# Altium footprint library smd_inductancies.PcbLib: 25 footprints (part 1 of 2)
Each footprint in its own frame and in the unit in brackets; x right, y up, seen from the top. Pads: shape width x height; smd on the part's side, far side on the other; paste and mask are expansions set on the pad; w line width, h text height; cw(c..) or ccw(c..) is an arc to the next point about the centre after c.
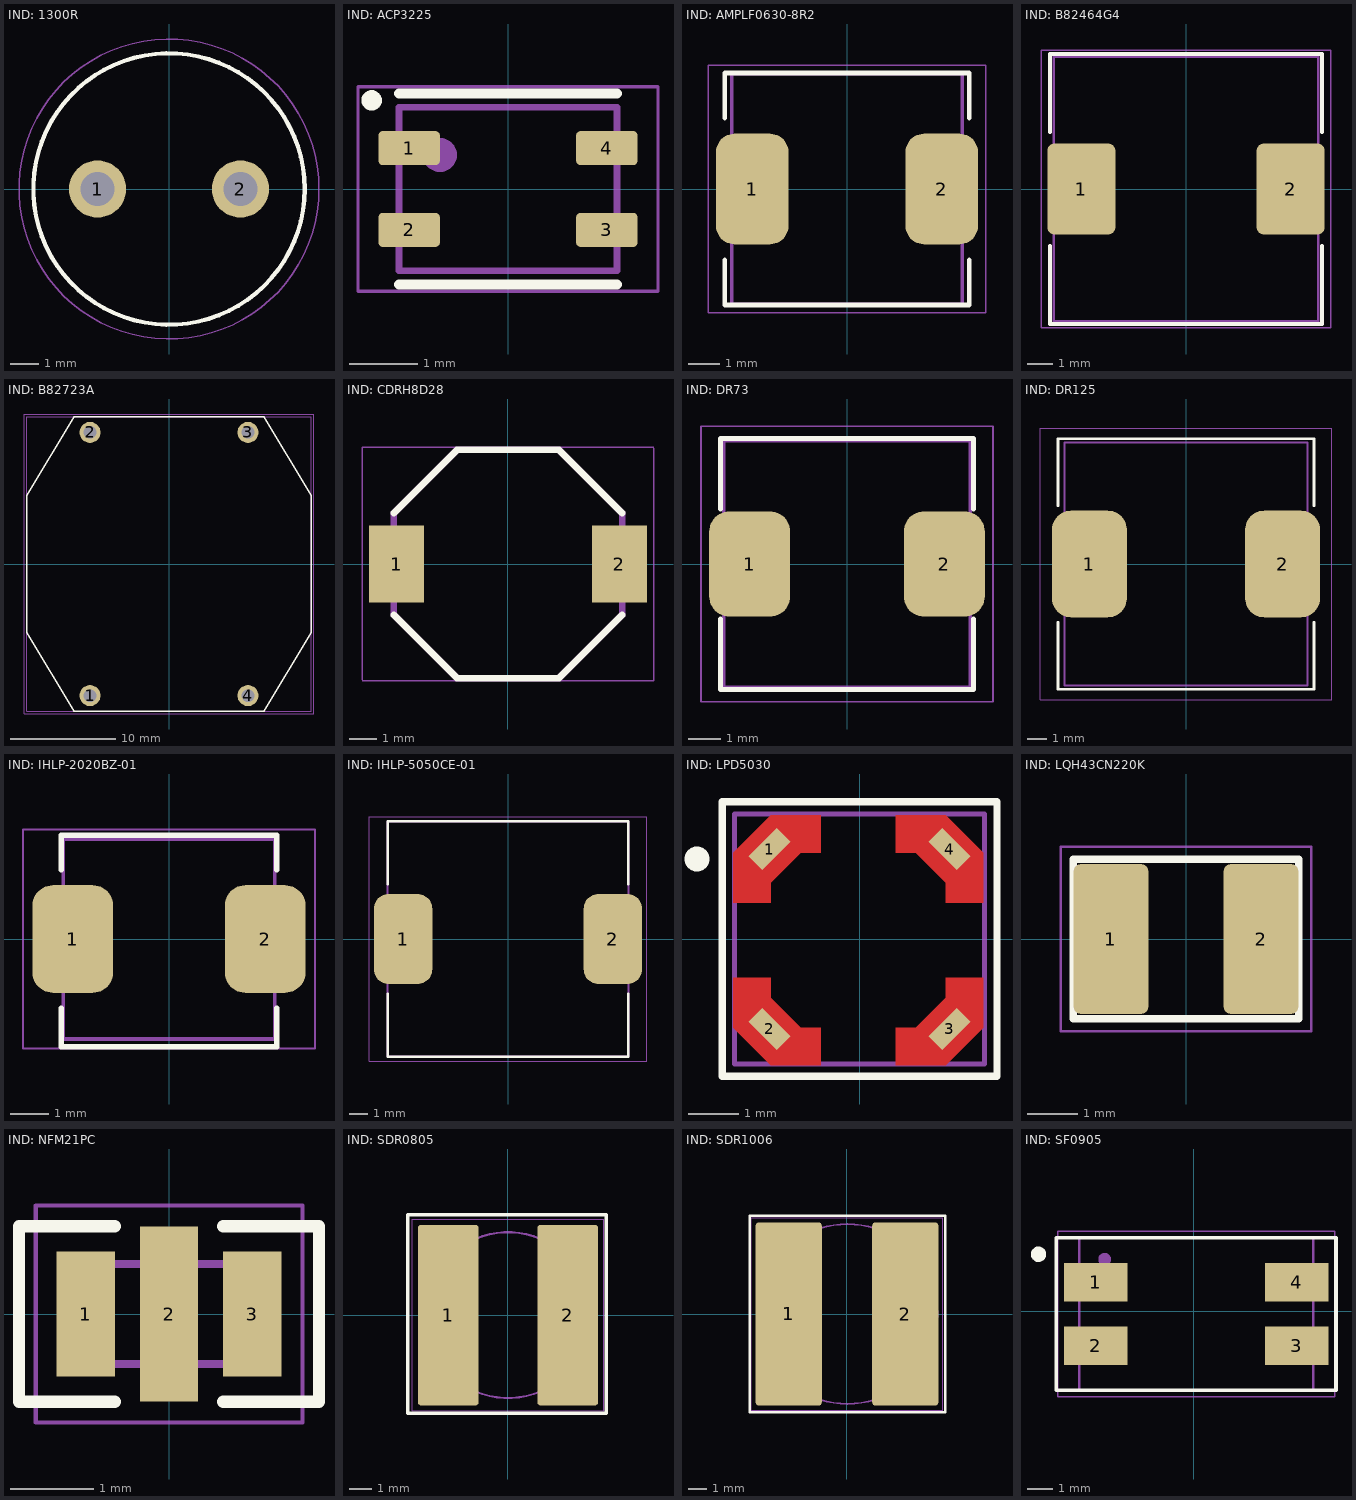
[diagram p0: the footprints below, top view; thin cyan lines are the x and y axes]

## IND: 1300R [mm]
height 13.5
pads (2):
  round 2 hole 1.2: 1(-2.5,0) 2(2.5,0)
Top Overlay:
  circle w0.15: c0,0 r4.75
Top Assembly:
  circle w0.1: c0,0 r4.75
  text ".Designator" at -4.998,-0.333 h1
Top Courtyard (Mech15):
  lines w0.05: 5.25,0 ccw(c0,0) 5.25,0
3D body "1300R.STEP": height 12.18, standoff -34.83, extent -5.594,-5.663 5.744,5.675

## IND: ACP3225 [mm]
height 2
pads (4):
  rrect25% 0.9x0.5 smd: 1(-1.45,0.6) 2(-1.45,-0.6) 3(1.45,-0.6) 4(1.45,0.6)
Top Overlay:
  circle w0.2: c-2,1.3 r0.05
  lines w0.15: -1.6,-1.4 1.6,-1.4 ; -1.6,1.4 1.6,1.4
Top Assembly:
  circle w0.3: c-1,0.5 r0.1
  lines w0.1: -1.6,-1.2 1.6,-1.2 1.6,1.2 -1.6,1.2 -1.6,-1.2
  text ".Designator" at -4.998,-0.333 h1
Top Courtyard (Mech15):
  lines w0.05: -2.2,-1.5 -2.2,1.5 2.2,1.5 2.2,-1.5 -2.2,-1.5
3D body "User Library-ACP3225-1.STEP": height 1.91, standoff 0, extent -1.61,-1.25 1.61,1.25

## IND: AMPLF0630-8R2 [mm] "Inductor 8.2uH, 3.6А"
pads (2):
  rrect50% 2.3x3.5 smd: 1(-3,0) 2(3,0)
Top Overlay:
  lines w0.15: -3.875,-2.25 -3.875,-3.675 3.875,-3.675 3.875,-2.25 ; -3.875,2.25 -3.875,3.675 3.875,3.675 3.875,2.25
Top Assembly:
  lines w0.1: -3.65,-3.65 -3.65,3.65 3.65,3.65 3.65,-3.65 -3.65,-3.65
  text ".Designator" at -4.998,-0.333 h1
Top Courtyard (Mech15):
  lines w0.05: -4.4,-3.925 -4.4,3.925 4.4,3.925 4.4,-3.925 -4.4,-3.925
3D body: height 2.8, standoff 0, extent -3.65,-3.65 3.65,3.65

## IND: B82464G4 [mm]
height 16.8
pads (2):
  rrect20% 2.7x3.6 smd: 1(-4.15,0) 2(4.15,0)
Top Overlay:
  lines w0.15: -5.4,-2.25 -5.4,-5.35 5.4,-5.35 5.4,-2.25 ; -5.4,2.25 -5.4,5.35 5.4,5.35 5.4,2.25
Top Assembly:
  lines w0.1: -5.25,-5.25 5.25,-5.25 5.25,5.25 -5.25,5.25 -5.25,-5.25
  text ".Designator" at -4.998,-0.333 h1
Top Courtyard (Mech15):
  lines w0.05: -5.75,-5.5 -5.75,5.5 5.75,5.5 5.75,-5.5 -5.75,-5.5
3D body: height 4.8, standoff 0, extent -5.25,-5.25 5.25,5.25

## IND: B82723A [mm]
height 16.8
pads (4):
  round 2 hole 1.2: 1(-7.5,-12.5) 2(-7.5,12.5) 3(7.5,12.5) 4(7.5,-12.5)
Top Overlay:
  lines w0.15: -13.5,-6.5 -13.5,6.5 -9,14 9,14 13.5,6.5 13.5,-6.5 9,-14 -9,-14 -13.5,-6.5
Top Assembly:
  lines w0.1: -13.5,-14 13.5,-14 13.5,14 -13.5,14 -13.5,-14
  text ".Designator" at -4.998,-0.333 h1
Top Courtyard (Mech15):
  lines w0.05: -13.75,-14.25 13.75,-14.25 13.75,14.25 -13.75,14.25 -13.75,-14.25
3D body "B82723A.step": height 16.81, standoff -4, extent -13.5,-14 13.5,14

## IND: CDRH8D28 [mm]
height 3
pads (2):
  rect 2x2.8 smd: 1(-4.05,0) 2(4.05,0)
Top Overlay:
  lines w0.25: -4.15,-1.85 -1.85,-4.15 1.85,-4.15 4.15,-1.85 ; -4.15,1.85 -1.85,4.15 1.85,4.15 4.15,1.85
Top Assembly:
  lines w0.25: -4.15,-1.85 -4.15,1.85 -1.85,4.15 1.85,4.15 4.15,1.85 4.15,-1.85 1.85,-4.15 -1.85,-4.15 -4.15,-1.85
  text ".Designator" at -4.998,-0.333 h1
Top Courtyard (Mech15):
  lines w0.05: -5.3,-4.25 5.3,-4.25 5.3,4.2 ; -5.3,-4.2 -5.3,4.25 5.3,4.25
3D body "CDRH8D28.step": height 2.8, standoff 0, extent -4.35,-4 4.35,4

## IND: DR73 [mm]
pads (2):
  rrect50% 2.5x3.25 smd: 1(-3,0) 2(3,0)
Top Overlay:
  lines w0.15: -3.9,-1.7 -3.9,-3.875 3.9,-3.875 3.9,-1.7 ; -3.9,1.7 -3.9,3.875 3.9,3.875 3.9,1.7
Top Assembly:
  lines w0.1: -3.8,-3.8 3.8,-3.8 3.8,3.8 -3.8,3.8 -3.8,-3.8
  text ".Designator" at -4.998,-0.333 h1
Top Courtyard (Mech15):
  lines w0.05: -4.5,-4.25 -4.5,4.25 4.5,4.25 4.5,-4.25 -4.5,-4.25
3D body "User Library-Ind DR73-74.STEP": height 3.55, standoff 0, extent -3.8,-3.8 3.8,3.8

## IND: DR125 [mm]
pads (2):
  rrect50% 3.85x5.5 smd: 1(-4.975,0) 2(4.975,0)
Top Overlay:
  lines w0.15: -6.6,-3 -6.6,-6.45 6.6,-6.45 6.6,-3 ; -6.6,3 -6.6,6.45 6.6,6.45 6.6,3
Top Assembly:
  lines w0.1: -6.25,-6.25 6.25,-6.25 6.25,6.25 -6.25,6.25 -6.25,-6.25
  text ".Designator" at -4.998,-0.333 h1
Top Courtyard (Mech15):
  lines w0.05: -7.5,-7 7.5,-7 7.5,7 -7.5,7 -7.5,-7
3D body: height 6, standoff 0, extent -6.25,-6.25 6.25,6.25

## IND: IHLP-2020BZ-01 [mm]
pads (2):
  rrect50% 2.1x2.8 smd: 1(-2.5,0) 2(2.5,0)
Top Overlay:
  lines w0.15: -2.8,-1.8 -2.8,-2.8 2.8,-2.8 2.8,-1.8 ; -2.8,1.8 -2.8,2.7 2.8,2.7 2.8,1.8
Top Assembly:
  lines w0.1: -2.75,-2.6 -2.75,2.6 2.75,2.6 2.75,-2.6 -2.75,-2.6
  text ".Designator" at -4.998,-0.333 h1
Top Courtyard (Mech15):
  lines w0.05: -3.8,-2.85 3.8,-2.85 3.8,2.85 -3.8,2.85 -3.8,-2.85
3D body "User Library-IHLP-2020BZ-01.step": height 2, standoff 0, extent -2.745,-2.59 2.745,2.59

## IND: IHLP-5050CE-01 [mm]
pads (2):
  rrect50% 3.2x4.95 smd: 1(-5.75,0) 2(5.75,0)
Top Overlay:
  lines w0.15: -6.6,-3 -6.6,-6.45 6.6,-6.45 6.6,-3 ; -6.6,3 -6.6,6.45 6.6,6.45 6.6,3
Top Assembly:
  lines w0.1: -6.6,-6.45 6.6,-6.45 6.6,6.45 -6.6,6.45 -6.6,-6.45
  text ".Designator" at -4.998,-0.333 h1
Top Courtyard (Mech15):
  lines w0.05: -7.6,-6.7 -7.6,6.7 7.6,6.7 7.6,-6.7 -7.6,-6.7
3D body: height 3.5, standoff 0, extent -6.6,-6.45 6.6,6.45

## IND: LPD5030 [mm]
pads (4):
  rect 0.8x0.4 smd rot 45 mask+0: 1(-1.8,1.8) 3(1.8,-1.8)
  rect 0.8x0.4 smd rot 135 mask+0: 2(-1.8,-1.8) 4(1.8,1.8)
Top Layer:
  region: 0.725,2.475 0.725,1.725 1.123,1.725 1.725,1.123 1.725,0.725 2.475,0.725 2.475,1.725 1.725,2.475
  region: 2.475,-0.775 1.725,-0.775 1.725,-1.173 1.123,-1.775 0.725,-1.775 0.725,-2.525 1.725,-2.525 2.475,-1.775
  region: -0.775,-2.525 -0.775,-1.775 -1.173,-1.775 -1.775,-1.173 -1.775,-0.775 -2.525,-0.775 -2.525,-1.775 -1.775,-2.525
  region: -2.525,0.725 -1.775,0.725 -1.775,1.123 -1.173,1.725 -0.775,1.725 -0.775,2.475 -1.775,2.475 -2.525,1.725
Top Overlay:
  circle w0.5: c-3.25,1.6 r0.001
  lines w0.15: -2.75,-2.75 2.75,-2.75 2.75,2.75 -2.75,2.75 -2.75,-2.75
Top Assembly:
  circle w0.3: c-1.8,1.8 r0.1
  lines w0.1: -2.5,-2.5 2.5,-2.5 2.5,2.5 -2.5,2.5 -2.5,-2.5
  text ".Designator" at -4.998,-0.333 h1
Top Courtyard (Mech15):
  lines w0.05: -2.75,-2.75 2.75,-2.75 2.75,2.75 -2.75,2.75 -2.75,-2.75
3D body: height 2.9, standoff 0, extent -2.5,-2.5 2.5,2.5

## IND: LQH43CN220K [mm]
height 16.8
pads (2):
  rrect20% 1.5x3 smd: 1(-1.5,0) 2(1.5,0)
Top Overlay:
  lines w0.15: -2.25,-1.6 2.25,-1.6 2.25,1.6 -2.25,1.6 -2.25,-1.6
Top Assembly:
  lines w0.1: -2.25,-1.6 -2.25,1.6 2.25,1.6 2.25,-1.6 -2.25,-1.6
  text ".Designator" at -4.998,-0.333 h1
Top Courtyard (Mech15):
  lines w0.05: -2.5,-1.85 -2.5,1.85 2.5,1.85 2.5,-1.85 -2.5,-1.85
3D body: height 2.6, standoff 0, extent -2.25,-1.6 2.25,1.6

## IND: NFM21PC [mm]
pads (3):
  rect 0.7x1.5 smd: 1(-1,0) 3(1,0)
  rect 0.7x2.1 smd: 2(0,0)
Top Overlay:
  lines w0.15: -0.65,-1.05 -1.8,-1.05 -1.8,1.05 -0.65,1.05 ; 0.65,-1.05 1.8,-1.05 1.8,1.05 0.65,1.05
Top Assembly:
  lines w0.1: -1,-0.6 1,-0.6 1,0.6 -1,0.6 -1,-0.6
  text ".Designator" at -4.998,-0.333 h1
Top Courtyard (Mech15):
  lines w0.05: -1.6,-1.3 1.6,-1.3 1.6,1.3 -1.6,1.3 -1.6,-1.3
3D body "User Library-NFM21PC.step": height 0.87, standoff 0, extent -1.01,-0.635 1.01,0.635

## IND: SDR0805 [mm] "SMD Power Inductors"
height 5.3
pads (2):
  rrect10% 2.7x8 smd: 1(-2.65,0) 2(2.65,0)
Top Overlay:
  lines w0.15: -4.45,-4.35 4.35,-4.35 4.35,4.45 -4.45,4.45 -4.45,-4.35
Top Assembly:
  circle w0.1: c0,0 r3.677
  text ".Designator" at -4.998,-0.333 h1
Top Courtyard (Mech15):
  lines w0.05: -4.25,-4.25 4.25,-4.25 4.25,4.25 -4.25,4.25 -4.25,-4.25
3D body "SDR0805.step": height 5.05, standoff 0, extent -3.677,-3.75 3.677,3.75

## IND: SDR1006 [mm] "SMD Power Inductors"
height 5.8
pads (2):
  rrect10% 3.6x10 smd: 1(-3.175,0) 2(3.175,0)
Top Overlay:
  lines w0.15: -5.3,-5.35 -5.3,5.35 5.35,5.35 5.35,-5.35 -5.3,-5.35
Top Assembly:
  circle w0.1: c0.025,0 r4.9
  text ".Designator" at -4.998,-0.333 h1
Top Courtyard (Mech15):
  lines w0.05: -5.225,-5.25 5.225,-5.25 5.225,5.25 -5.225,5.25 -5.225,-5.25
3D body "SDR1006.step": height 5.83, standoff -0.13, extent -4.888,-4.9 4.888,4.9

## IND: SF0905 [mm]
pads (4):
  rect 2.5x1.5 smd: 1(-3.85,1.15) 2(-3.85,-1.35) 3(4.05,-1.35) 4(4.05,1.15)
Top Overlay:
  circle w0.4: c-6.1,2.25 r0.1
  lines w0.15: -5.4,-3.1 -5.4,2.9 5.6,2.9 5.6,-3.1 -5.4,-3.1
Top Assembly:
  circle w0.3: c-3.5,2.05 r0.1
  lines w0.1: -4.5,-3.1 4.7,-3.1 4.7,2.9 -4.5,2.9 -4.5,-3.1
  text ".Designator" at -4.998,-0.333 h1
Top Courtyard (Mech15):
  lines w0.05: -5.35,-3.35 -5.35,3.15 5.55,3.15 5.55,-3.35 -5.35,-3.35
3D body "User Library-Bourns - SRF0905.step": height 5, standoff 0, extent -4.5,-3.1 4.7,2.9